# Altium footprint library Main PCB.PcbLib: 35 footprints (part 1 of 3)
Each footprint in its own frame and in the unit in brackets; x right, y up, seen from the top. Pads: shape width x height; smd on the part's side, far side on the other; paste and mask are expansions set on the pad; w line width, h text height; cw(c..) or ccw(c..) is an arc to the next point about the centre after c.
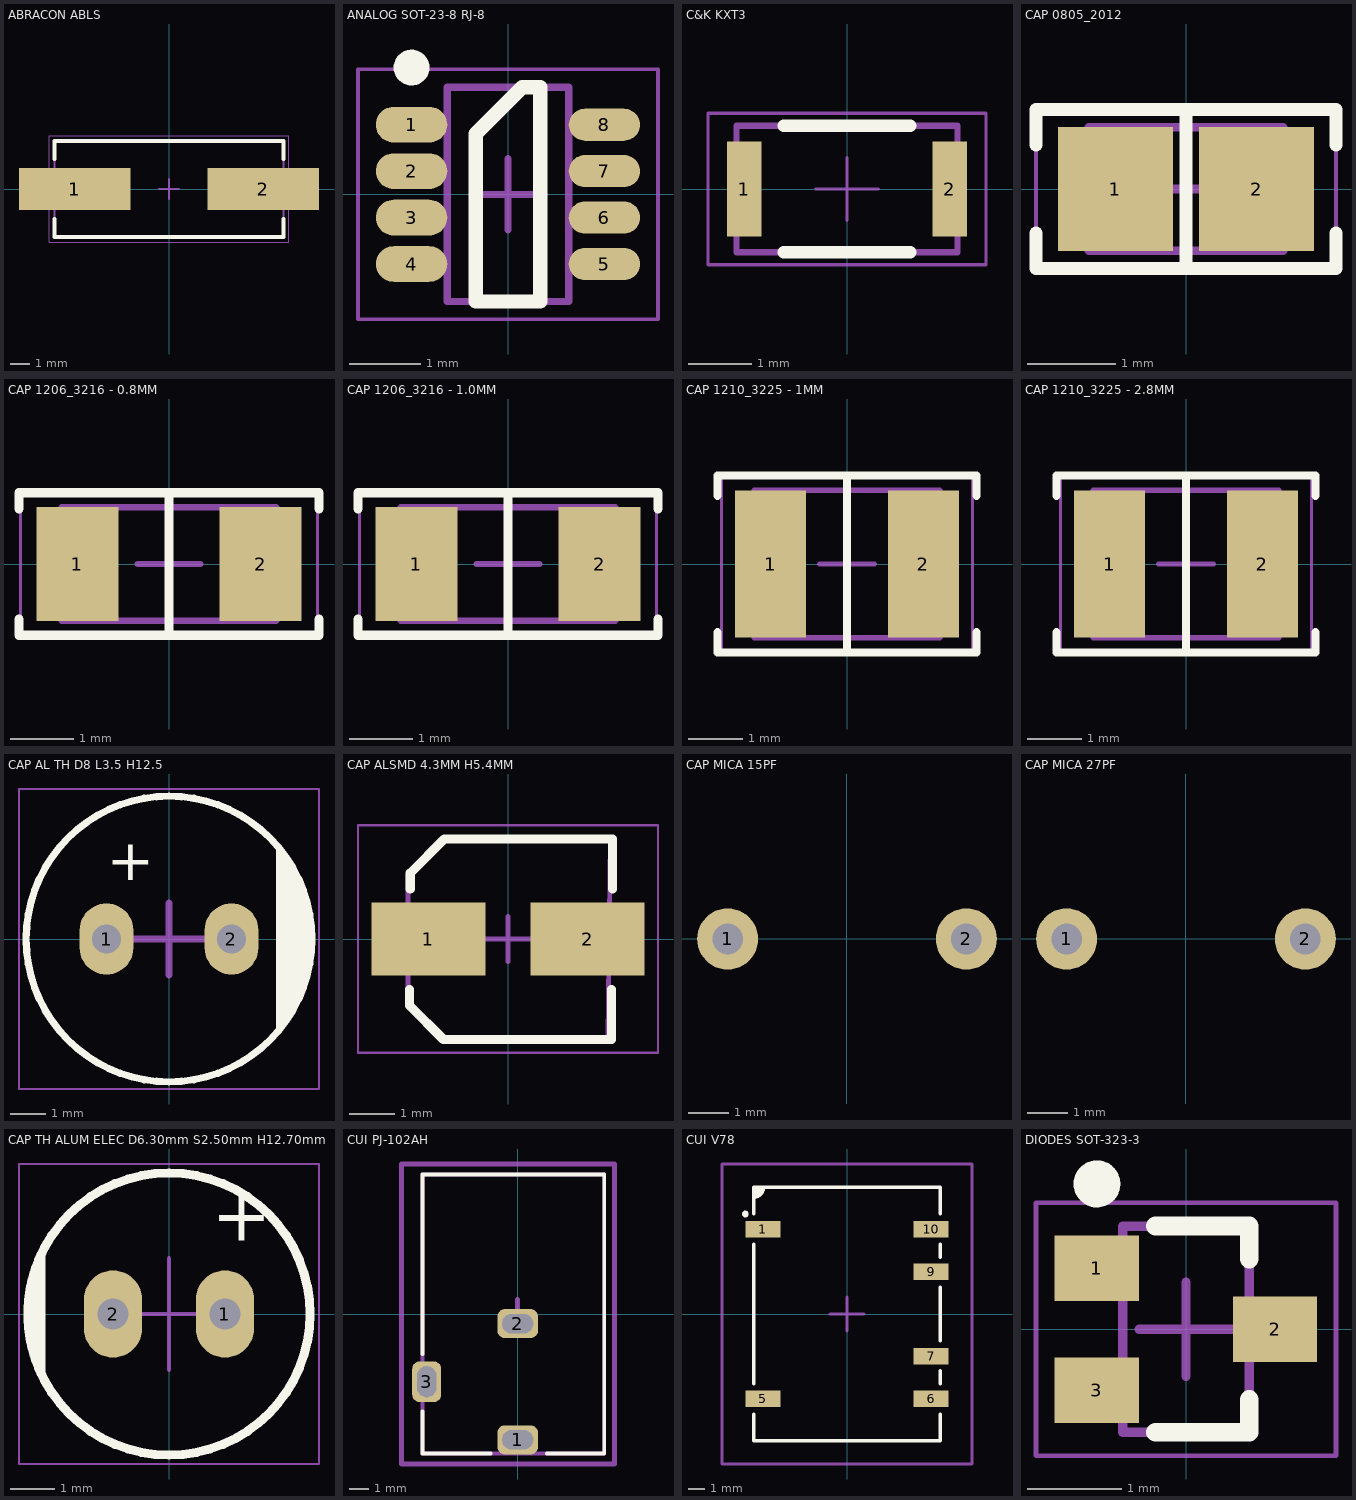
[diagram p0: the footprints below, top view; thin cyan lines are the x and y axes]

## ABRACON ABLS [mm] "Crystal, 2-Leads, Body 4.70x11.40mm, Pitch 8.80mm, IPC Medium Density"
height 4.2
pads (2):
  rect 5.6x2.1 smd: 1(-4.75,0) 2(4.75,0)
Top Overlay:
  lines w0.2: -5.775,-1.5 -5.775,-2.425 5.775,-2.425 5.775,-1.5 ; -5.775,1.5 -5.775,2.425 5.775,2.425 5.775,1.5
Mechanical 13:
  lines w0.1: -5.775,-2.425 -5.775,2.425 5.775,2.425 5.775,-2.425 -5.775,-2.425
Mechanical 15:
  lines w0.05: -6.025,-2.675 -6.025,2.675 6.025,2.675 6.025,-2.675 -6.025,-2.675
  lines w0.1: -0.5,0 0.5,0 ; 0,-0.5 0,0.5
3D body "HC49US SMT Crystal.STEP": height 4.2, standoff 0, extent -6.35,-2.35 6.35,2.35

## ANALOG SOT-23-8 RJ-8 [mm] "SOT-23-8, 8-Leads, Body 2.90x1.60mm, Pitch 0.65mm, IPC Medium Density"
height 1.45
pads (8):
  oval 1x0.5 smd: 1(-1.35,0.975) 2(-1.35,0.325) 3(-1.35,-0.325) 4(-1.35,-0.975)
  oval 1x0.45 smd: 5(1.35,-0.975) 6(1.35,-0.325) 7(1.35,0.325) 8(1.35,0.975)
Top Overlay:
  circle w0.25: c-1.35,1.775 r0.125
  lines w0.2: -0.45,-1.5 0.45,-1.5 0.45,1.5 0.2,1.5 -0.45,0.85 -0.45,-1.5
Mechanical 13:
  lines w0.1: -0.85,-1.5 0.85,-1.5 0.85,1.5 -0.85,1.5 -0.85,-1.5
Mechanical 15:
  lines w0.05: -2.1,-1.75 2.1,-1.75 2.1,1.75 -2.1,1.75 -2.1,-1.75
  lines w0.1: -0.5,0 0.5,0 ; 0,-0.5 0,0.5
3D body "ANALOG SOT-23-8 RJ-8.step": height 1.45, standoff 0, extent -1.4,-1.5 1.4,1.5

## C&K KXT3 [mm]
height 0.6
pads (2):
  rect 0.55x1.5 smd: 1(-1.625,0) 2(1.625,0)
Top Overlay:
  lines w0.2: -1,-1 1,-1 ; -1,1 1,1
Mechanical 13:
  lines w0.1: -1.75,-1 -1.75,1 1.75,1 1.75,-1 -1.75,-1
Mechanical 15:
  lines w0.05: -0.5,0 0.5,0 ; 0,-0.5 0,0.5 ; -2.2,-1.2 2.2,-1.2 2.2,1.2 -2.2,1.2 -2.2,-1.2
3D body "C&K KXT.STEP": height 0.58, standoff 0, extent -1.75,-1 1.75,1

## CAP 0805_2012 [mm] "Chip Capacitor, 2-Leads, Body 2.00x1.20mm, IPC Medium Density"
height 1.15
pads (2):
  rect 1.3x1.4 smd: 1(-0.8,0) 2(0.8,0)
Top Overlay:
  lines w0.15: -1.7,-0.5 -1.7,-0.9 1.7,-0.9 1.7,-0.5 ; -1.7,0.5 -1.7,0.9 1.7,0.9 1.7,0.5 ; 0,-0.9 0,0.9
Mechanical 13:
  lines w0.1: -1.1,-0.7 -1.1,0.7 1.1,0.7 1.1,-0.7 -1.1,-0.7
Mechanical 15:
  lines w0.05: -1.7,-0.95 -1.7,0.95 1.7,0.95 1.7,-0.95 -1.7,-0.95
  lines w0.1: -0.5,0 0.5,0 ; 0,-0.5 0,0.5
3D body "0805 cap.STEP": height 1.26, standoff -0.02, extent -1,-0.637 1,0.637

## CAP 1206_3216 - 0.8MM [mm] "Chip Capacitor, 2-Leads, Body 3.25x1.60mm, IPC Medium Density"
height 0.8
pads (2):
  rect 1.3x1.8 smd: 1(-1.45,0) 2(1.45,0)
Top Overlay:
  lines w0.15: -2.375,-0.875 -2.375,-1.125 2.375,-1.125 2.375,-0.875 ; -2.375,0.875 -2.375,1.125 2.375,1.125 2.375,0.875 ; 0,-1.125 0,1.125
Mechanical 13:
  lines w0.1: -1.7,-0.9 -1.7,0.9 1.7,0.9 1.7,-0.9 -1.7,-0.9
Mechanical 15:
  lines w0.05: -2.35,-1.15 -2.35,1.15 2.35,1.15 2.35,-1.15 -2.35,-1.15
  lines w0.1: -0.5,0 0.5,0 ; 0,-0.5 0,0.5
3D body "CAP 1206-0.8mm.STEP": height 0.8, standoff 0, extent -1.6,-0.8 1.6,0.8

## CAP 1206_3216 - 1.0MM [mm] "Chip Capacitor, 2-Leads, Body 3.25x1.60mm, IPC Medium Density"
height 1
pads (2):
  rect 1.3x1.8 smd: 1(-1.45,0) 2(1.45,0)
Top Overlay:
  lines w0.15: -2.375,-0.875 -2.375,-1.125 2.375,-1.125 2.375,-0.875 ; -2.375,0.875 -2.375,1.125 2.375,1.125 2.375,0.875 ; 0,-1.125 0,1.125
Mechanical 13:
  lines w0.1: -1.7,-0.9 -1.7,0.9 1.7,0.9 1.7,-0.9 -1.7,-0.9
Mechanical 15:
  lines w0.05: -2.35,-1.15 -2.35,1.15 2.35,1.15 2.35,-1.15 -2.35,-1.15
  lines w0.1: -0.5,0 0.5,0 ; 0,-0.5 0,0.5
3D body "CAP 1206-1mm.STEP": height 1, standoff 0, extent -1.6,-0.8 1.6,0.8

## CAP 1210_3225 - 1MM [mm] "Chip Capacitor, 2-Leads, Body 3.20x2.50mm, IPC Medium Density"
height 1
pads (2):
  rect 1.3x2.7 smd: 1(-1.4,0) 2(1.4,0)
Top Overlay:
  lines w0.15: -2.375,-1.25 -2.375,-1.625 2.375,-1.625 2.375,-1.25 ; -2.375,1.25 -2.375,1.625 2.375,1.625 2.375,1.25 ; 0,-1.625 0,1.625
Mechanical 13:
  lines w0.1: -1.7,-1.35 -1.7,1.35 1.7,1.35 1.7,-1.35 -1.7,-1.35
Mechanical 15:
  lines w0.05: -2.3,-1.6 -2.3,1.6 2.3,1.6 2.3,-1.6 -2.3,-1.6
  lines w0.1: -0.5,0 0.5,0 ; 0,-0.5 0,0.5
3D body "CAP 1210-1mm.STEP": height 1, standoff 0, extent -1.6,-1.25 1.6,1.25

## CAP 1210_3225 - 2.8MM [mm] "Chip Capacitor, 2-Leads, Body 3.20x2.50mm, IPC Medium Density"
height 2.8
pads (2):
  rect 1.3x2.7 smd: 1(-1.4,0) 2(1.4,0)
Top Overlay:
  lines w0.15: -2.375,-1.25 -2.375,-1.625 2.375,-1.625 2.375,-1.25 ; -2.375,1.25 -2.375,1.625 2.375,1.625 2.375,1.25 ; 0,-1.625 0,1.625
Mechanical 13:
  lines w0.1: -1.7,-1.35 1.7,-1.35 1.7,1.35 -1.7,1.35 -1.7,-1.35
Mechanical 15:
  lines w0.05: -2.3,-1.6 2.3,-1.6 2.3,1.6 -2.3,1.6 -2.3,-1.6
  lines w0.1: -0.5,0 0.5,0 ; 0,-0.5 0,0.5
3D body "CAP 1210-2.8mm.STEP": height 2.8, standoff 0, extent -1.6,-1.25 1.6,1.25

## CAP AL TH D8 L3.5 H12.5 [mm] "8MM Diameter, 3.5MM Lead Spacing Aluminium Capacitor"
height 12.5
pads (2):
  oval 1.5x2 hole 0.8: 1(-1.75,0) 2(1.75,0)
Top Overlay:
  circle w0.2: c0,0 r4
  region: 3,2.5 3.5,2 4,0.5 4,-0.75 3.75,-1.5 3.25,-2.25 3,-2.75
  text "+" at -1.75,1.25 h2
Mechanical 13:
  circle w0.1: c0,0 r4
  lines w0.1: 3.1,-2.5 3.1,2.5
Mechanical 15:
  lines w0.05: -4.2,-4.2 -4.2,4.2 4.2,4.2 4.2,-4.2 -4.2,-4.2
  lines w0.2: -1,0 1,0 ; 0,-1 0,1
3D body "CAP ALTH D8 L3.5 H12.5.step": height 11.5, standoff -2.5, extent -4,-4 4,4

## CAP ALSMD 4.3MM H5.4MM [mm] "Aluminum Electrolytic Capacitor, Body 4.30x4.30x5.40mm, IPC Low Density"
height 5.4
pads (2):
  rect 2.5x1.6 smd: 1(-1.75,0) 2(1.75,0)
Top Overlay:
  lines w0.2: -2.17,-1.112 -2.17,-1.462 -1.42,-2.212 2.28,-2.212 2.28,-1.112 ; -2.15,1.1 -2.15,1.45 -1.4,2.2 2.3,2.2 2.3,1.1
Mechanical 13:
  lines w0.1: -2.2,-1.4 -2.2,1.4 -1.4,2.2 2.25,2.2 2.2,-2.2 -1.4,-2.2 -2.2,-1.4
Mechanical 15:
  lines w0.05: -3.3,-2.5 3.3,-2.5 3.3,2.5 -3.3,2.5 -3.3,-2.5
  lines w0.1: -0.5,0 0.5,0 ; 0,-0.5 0,0.5
3D body "CAP ALSMD - 4.3 x 4.3 x 5.4.step": height 5.4, standoff 0, extent -2.3,-2.2 2.3,2.2

## CAP MICA 15PF [mil]
pads (2):
  round 60 hole 30: 1(-117,0) 2(117,0)

## CAP MICA 27PF [mil]
pads (2):
  round 60 hole 30: 1(-117,0) 2(117,0)

## CAP TH ALUM ELEC D6.30mm S2.50mm H12.70mm [mm] "6.3mm Diameter 2.5mm Lead Spacing Aluminum Electrolytic Capacitors Radial, Can"
height 12.7
pads (2):
  oval 1.3x1.95 hole 0.7: 1(1.25,0) 2(-1.25,0)
Top Overlay:
  circle w0.2: c0,0 r3.15
  region: -2.855,-1.331 -2.928,-1.175 -3.038,-0.85 -3.113,-0.514 -3.15,-0.172 -3.15,0.172 -3.113,0.514 -3.038,0.85 -2.928,1.175 -2.855,1.331
  lines w0.2: -2.855,-1.331 cw(c0,0) -2.855,1.331 -2.855,-1.331
  text "+" at 0.95,1.25 h2
Mechanical 13:
  circle w0.1: c0,0 r3.15
  lines w0.1: -2.855,-1.331 -2.855,1.331
Mechanical 15:
  lines w0.05: -3.35,-3.35 -3.35,3.35 3.35,3.35 3.35,-3.35 -3.35,-3.35
  lines w0.1: -1.25,0 0,0 ; 0,-1.25 0,0 ; 0,1.25 0,0 ; 1.25,0 0,0
3D body "Cap TH D6.30mm H12.70mm L2.50mm.step": height 12.7, standoff -2.5, extent -3.158,-3.15 3.15,3.15

## CUI PJ-102AH [mm] "DC Barrel Jack W/ Switch 2.0x5.5"
height 11
pads (3):
  rrect50% 2.1x1.5 hole 1 slot 1.6 at 0 deg: 1(0,-6.5) 2(0,-0.5)
  rrect50% 1.5x2.1 hole 1 slot 1.6 at 90 deg: 3(-4.7,-3.5)
Top Overlay:
  lines w0.2: -4.925,-5.025 -4.925,-7.2 -1.4,-7.2 ; -4.925,-2.075 -4.925,7.2 4.475,7.2 4.475,-6.525 4.475,-7.2 1.5,-7.2
Mechanical 1:
  lines w0.2: -4.925,-7.2 -4.925,7.2 4.475,7.2 4.475,-7.2 -4.925,-7.2
Mechanical 15:
  lines w0.254: -0.75,0 0,0 ; 0,-0.75 0,0 ; 0,0.75 0,0 ; 0.75,0 0,0 ; -6,-7.75 -6,-3.5 -6,7.75 5,7.75 5,-7.75 -6,-7.75
3D body "CUI-PJ-102AH.step": height 11, standoff -3.5, extent -4.925,-7.2 4.475,7.2

## CUI V78 [mm] "Non-isolated switching regulator"
height 7.25
pads (6):
  rect 2.1x1 smd: 1(-5.05,5.08) 5(-5.05,-5.08) 6(5.05,-5.08) 7(5.05,-2.54) 9(5.05,2.54) 10(5.05,5.08)
Top Overlay:
  circle w0.2: c-6.1,6 r0.1
  region: -5,7.6 -5,7.4 -5.4,7 -5.6,7 -5.6,7.6
  lines w0.2: -5.6,-6 -5.6,-7.6 5.6,-7.6 5.6,-6 ; -5.6,-4.2 -5.6,4.2 ; -5.6,6 -5.6,7.6 5.6,7.6 5.6,6 ; -5.6,7 ccw(c-5.6,7.6) -5,7.6 ; 5.6,-4.2 5.6,-3.4 ; 5.6,-1.6 5.6,1.6 ; 5.6,3.4 5.6,4.2
Mechanical 15:
  lines w0.2: -1,0 1,0 ; 0,-1 0,1 ; -7.5,-9 7.5,-9 7.5,9 -7.5,9 -7.5,-9
3D body "CUI V78.STEP": height 7.25, standoff 0, extent -5.622,-7.62 5.622,7.62

## DIODES SOT-323-3 [mm] "SOT323, 3-Leads, Body 2.00x2.10mm, Pitch 0.65mm, IPC Medium Density"
height 1
pads (3):
  rect 0.9x0.7 smd: 1(-0.95,0.65) 2(0.95,0) 3(-0.95,-0.65)
Top Overlay:
  circle w0.25: c-0.95,1.55 r0.125
  lines w0.2: -0.325,-1.1 0.675,-1.1 0.675,-0.75 ; -0.325,1.1 0.675,1.1 0.675,0.75
Mechanical 13:
  lines w0.1: -0.675,-1.1 0.675,-1.1 0.675,1.1 -0.675,1.1 -0.675,-1.1
Mechanical 15:
  lines w0.05: -1.6,-1.35 1.6,-1.35 1.6,1.35 -1.6,1.35 -1.6,-1.35
  lines w0.1: -0.5,0 0.5,0 ; 0,-0.5 0,0.5
3D body "sot-323.STEP": height 1, standoff 0, extent -1.058,-1 1.059,1